# Altium footprint library SnapEDApcb.PcbLib: 1 footprints
Each footprint in its own frame and in the unit in brackets; x right, y up, seen from the top. Pads: shape width x height; smd on the part's side, far side on the other; paste and mask are expansions set on the pad; w line width, h text height; cw(c..) or ccw(c..) is an arc to the next point about the centre after c.
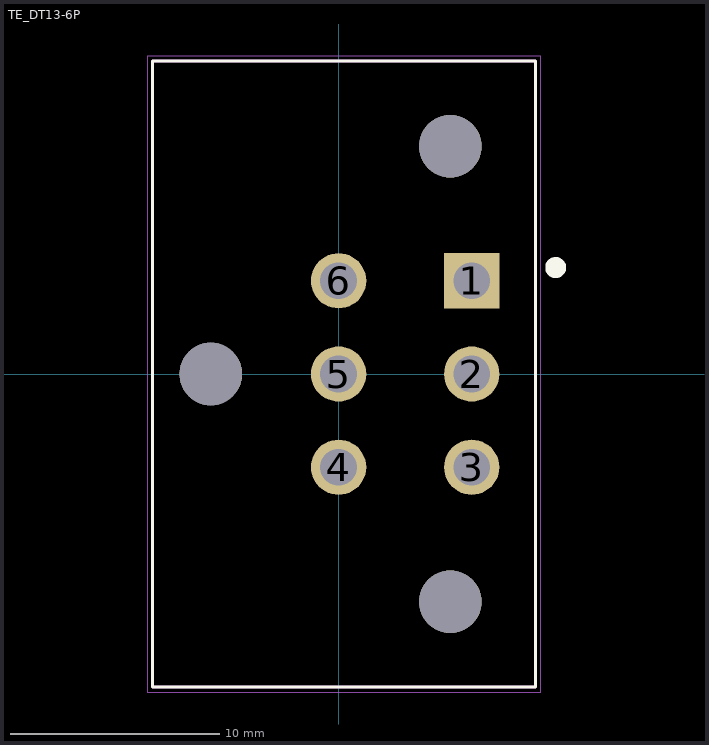
[diagram p0: the footprint, top view; thin cyan lines are the x and y axes]

## TE_DT13-6P [mm]
pads (9):
  rect 2.64x2.64 hole 1.76: 1(6.35,4.45)
  round 2.64 hole 1.76: 2(6.35,0) 3(6.35,-4.45) 4(0,-4.45) 5(0,0) 6(0,4.45)
  round 2.99 hole 2.99 unplated: ""(-6.1,0) ""(5.33,-10.87) ""(5.33,10.87)
Top Overlay:
  circle w0.5: c10.36,5.08 r0.25
  lines w0.152: -8.89,-14.935 -0.8,-14.935 9.39,-14.935 9.39,14.935 -0.8,14.935 -8.89,14.935 -8.89,-14.935
Mechanical 13:
  lines w0.152: -8.89,-14.935 -0.8,-14.935 9.39,-14.935 9.39,14.935 -0.8,14.935 -8.89,14.935 -8.89,-14.935
Mechanical 15:
  lines w0.05: -9.144,-15.185 -9.144,15.185 -0.55,15.185 9.64,15.185 9.64,-15.185 -0.55,-15.185 -9.144,-15.185
3D body "dt13-6p.stp": height 35.27, standoff -3.31, extent -30.099,-19.736 9.398,23.063